# Altium footprint library TASC.PCBLIB: 1 footprints
Each footprint in its own frame and in the unit in brackets; x right, y up, seen from the top. Pads: shape width x height; smd on the part's side, far side on the other; paste and mask are expansions set on the pad; w line width, h text height; cw(c..) or ccw(c..) is an arc to the next point about the centre after c.
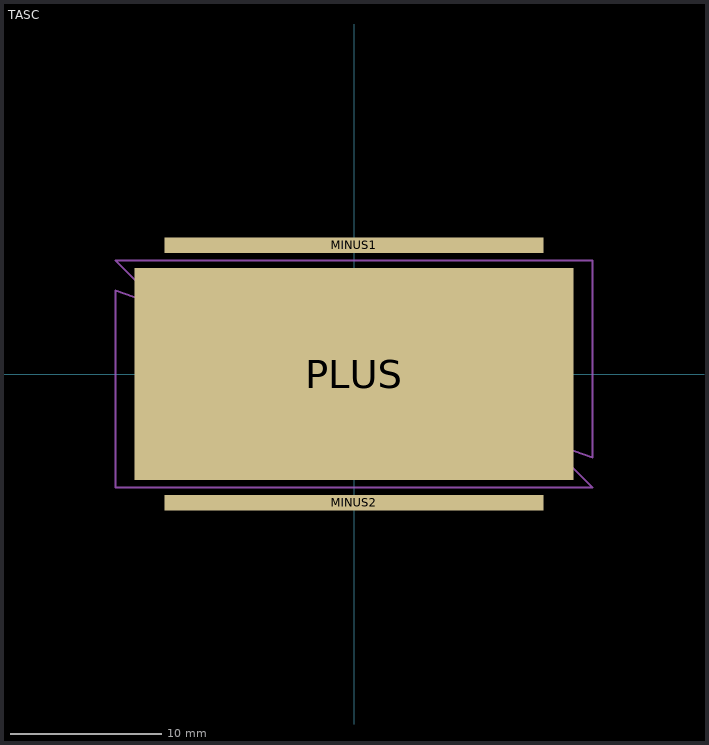
[diagram p0: the footprint, top view; thin cyan lines are the x and y axes]

## TASC [mm]
pads (3):
  rect 25x1 smd: MINUS1(0,8.5) MINUS2(0,-8.5)
  rect 29x14 smd: PLUS(0,0)
Mechanical 2:
  lines w0.127: -15.75,-7.5 -15.75,5.5 12.75,-4.5 15.75,-7.5 -15.75,-7.5 ; -15.75,7.5 15.75,7.5 15.75,-5.5 -12.75,4.5 -15.75,7.5